# Altium footprint library driver.PcbLib: 31 footprints (part 1 of 2)
Each footprint in its own frame and in the unit in brackets; x right, y up, seen from the top. Pads: shape width x height; smd on the part's side, far side on the other; paste and mask are expansions set on the pad; w line width, h text height; cw(c..) or ccw(c..) is an arc to the next point about the centre after c.
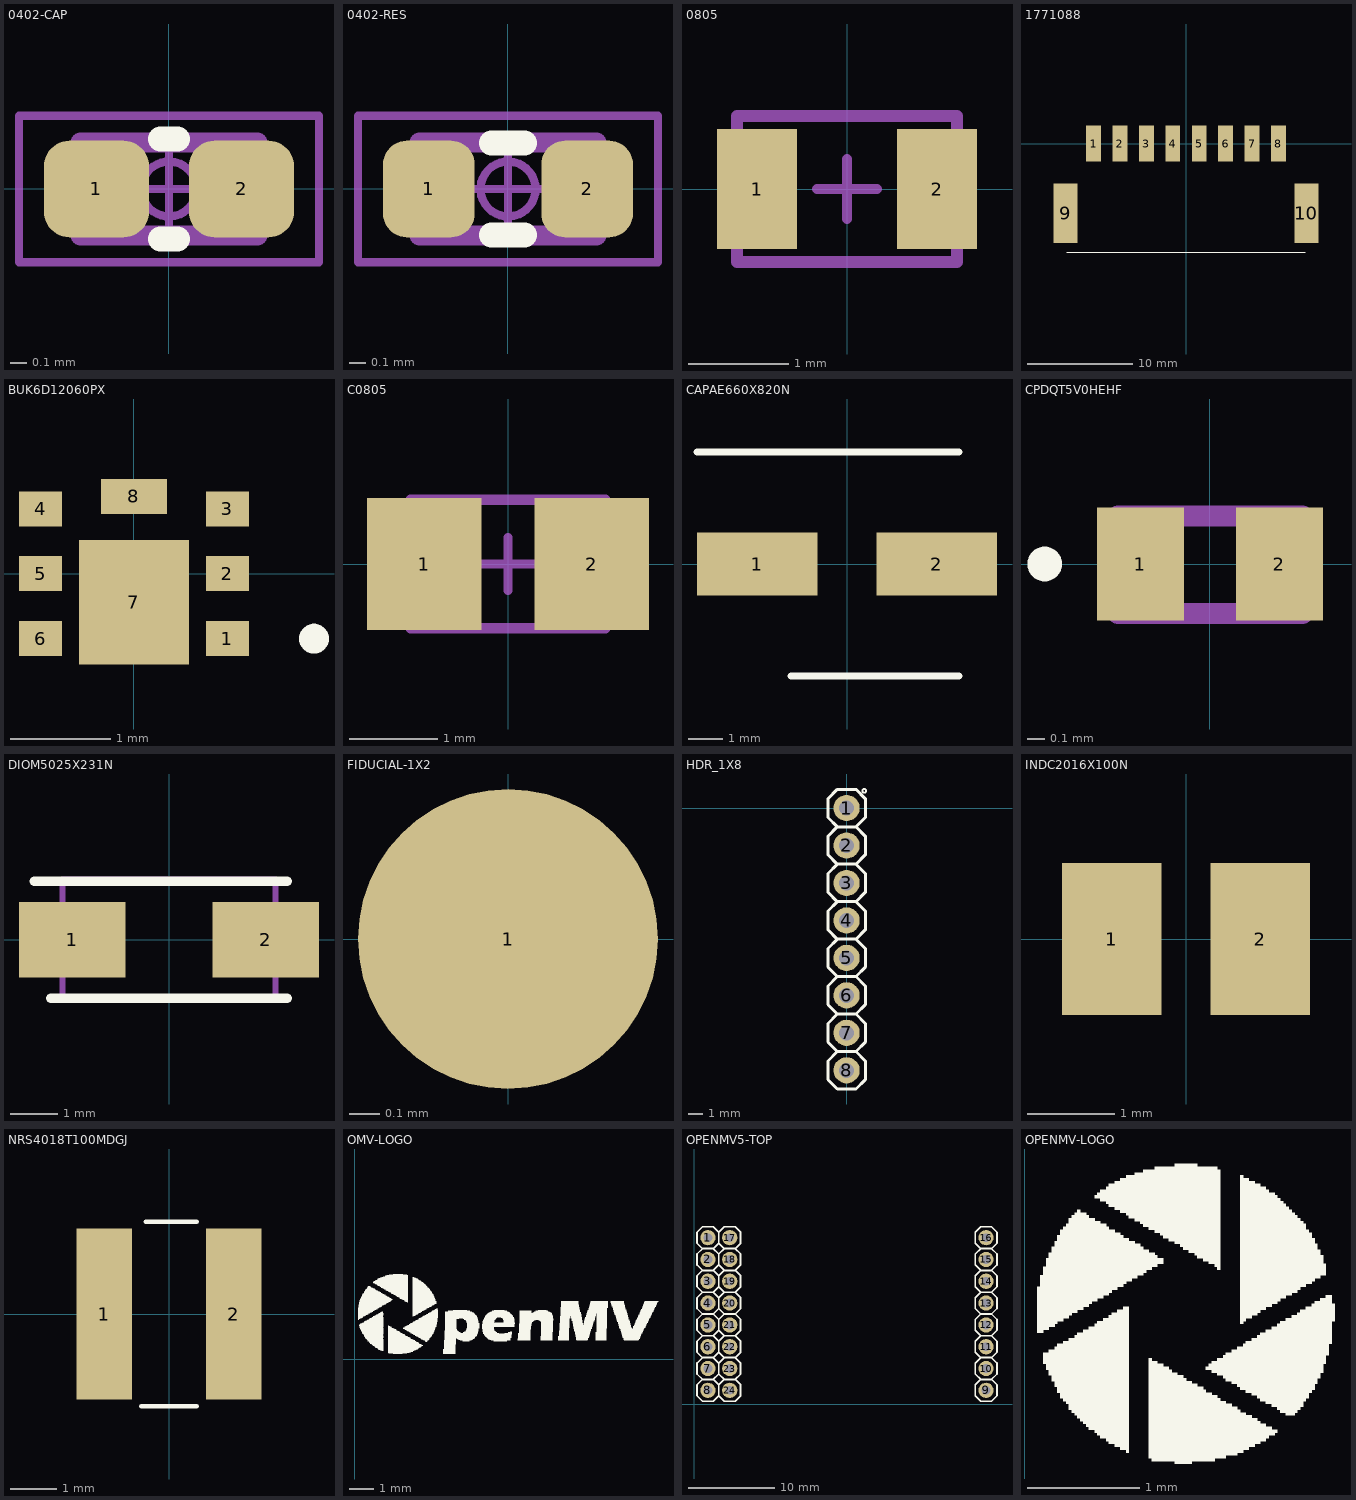
[diagram p0: the footprints below, top view; thin cyan lines are the x and y axes]

## 0402-CAP [mm] "Chip Capacitor, 2-Leads, Body  0402 (in) 1005 (mm), IPC Medium Density"
height 0.5
pads (2):
  rrect52% 0.63x0.58 smd mask+0.05: 1(-0.435,0) 2(0.435,0)
Top Overlay:
  lines w0.15: -0.05,-0.3 0.05,-0.3 ; -0.05,0.3 0.05,0.3
Mechanical 13:
  lines w0.12: -0.53,-0.28 -0.53,0.28 0.53,0.28 0.53,-0.28 -0.53,-0.28
  text ".designator" at -0.432,-0.178 h0.3
Mechanical 15:
  circle w0.05: c0,0 r0.165
  lines w0.05: -0.22,0 0.22,0 ; 0,-0.22 0,0.22 ; -0.9,-0.44 -0.9,0.44 0.9,0.44 0.9,-0.44 -0.9,-0.44
3D body "CAP-0402.stp": height 0.5, standoff 0, extent -0.5,-0.25 0.5,0.25

## 0402-RES [mm] "Chip Resistor, 2-Leads, Body  0402 (in) 1005 (mm), IPC Medium Density"
height 0.5
pads (2):
  rrect51% 0.55x0.58 smd mask+0.05: 1(-0.475,0) 2(0.475,0)
Top Overlay:
  lines w0.15: -0.1,-0.275 0.1,-0.275 ; -0.1,0.275 0.1,0.275
Mechanical 13:
  lines w0.12: -0.53,-0.28 -0.53,0.28 0.53,0.28 0.53,-0.28 -0.53,-0.28
  text ".designator" at -0.432,-0.152 h0.3
Mechanical 15:
  circle w0.05: c0,0 r0.165
  lines w0.05: -0.22,0 0.22,0 ; 0,-0.22 0,0.22 ; -0.9,-0.44 -0.9,0.44 0.9,0.44 0.9,-0.44 -0.9,-0.44
3D body "RES-0402.stp": height 0.34, standoff 0, extent -0.5,-0.25 0.5,0.25

## 0805 [mil] "0805"
pads (2):
  rect 31.5x47.24 smd: 1(-35.43,0) 2(35.43,0)
Mechanical 13:
  lines w3.94: -11.81,0 0,0 ; 0,-11.81 0,0 ; 0,11.81 0,0 ; 11.81,0 0,0
  lines w4.72: -43.31,-28.74 -43.31,28.74 43.31,28.74 43.31,-28.74 -43.31,-28.74
  text ".designator" at -39.36,-24.6 h11.81
3D body "CAP-0805.stp": height 49.21, standoff 0, extent -39.36,-24.6 39.38,24.61

## 1771088 [mm] "1771088"
pads (10):
  rect 1.4x3.4 smd: 1(-8.75,0) 2(-6.25,0) 3(-3.75,0) 4(-1.25,0) 5(1.25,0) 6(3.75,0) 7(6.25,0) 8(8.75,0)
  rect 2.3x5.6 smd: 9(-11.4,-6.6) 10(11.4,-6.6)
Top Overlay:
  lines w0.1: -11.3,-10.3 11.3,-10.3
3D body "1771088.stp": height 5.1, standoff -0.02, extent -12.2,-10.2 12.2,0.8

## BUK6D12060PX [mm] "BUK6D12060PX"
pads (8):
  rect 0.43x0.35 smd: 1(0.935,-0.65) 2(0.935,0) 3(0.935,0.65) 4(-0.935,0.65) 5(-0.935,0) 6(-0.935,-0.65)
  rect 1.1x1.25 smd: 7(0,-0.285)
  rect 0.66x0.35 smd: 8(0,0.775)
Top Overlay:
  lines w0.2: 1.8,-0.7 ccw(c1.8,-0.65) 1.8,-0.6 ; 1.8,-0.7 cw(c1.8,-0.65) 1.8,-0.6 ; 1.8,-0.7 ccw(c1.8,-0.65) 1.8,-0.6
3D body: height 0.65, standoff 0, extent -1,-1 1,1

## C0805 [mm] "C0805"
pads (2):
  rect 1.3x1.5 smd: 1(-0.95,0) 2(0.95,0)
Mechanical 13:
  lines w0.1: -0.3,0 0,0 ; 0,-0.3 0,0 ; 0,0.3 0,0 ; 0.3,0 0,0
  lines w0.12: -1.1,-0.73 -1.1,0.73 1.1,0.73 1.1,-0.73 -1.1,-0.73
  text ".designator" at -1,-0.625 h0.3
3D body "CAP-0805.stp": height 1.25, standoff 0, extent -1,-0.625 1,0.625

## CAPAE660X820N [mm] "CAPAE660X820N"
pads (2):
  rect 3.55x1.85 smd: 1(-2.65,0) 2(2.65,0)
Top Overlay:
  lines w0.2: -4.425,3.3 3.3,3.3 ; -1.65,-3.3 3.3,-3.3
3D body "CAP_MZR_F80_NIP.step": height 8.05, standoff 0, extent -3.696,-3.404 3.696,3.404

## CPDQT5V0HEHF [mm] "CPDQT5V0HEHF"
pads (2):
  rect 0.5x0.65 smd: 1(-0.4,0) 2(0.4,0)
Top Overlay:
  lines w0.1: -1,0 cw(c-0.95,0) -0.9,0 cw(c-0.95,0) -1,0
Mechanical 13:
  lines w0.12: -0.529,-0.284 -0.529,0.276 0.531,0.276 0.531,-0.284 -0.529,-0.284
  text ".designator" at -0.43,-0.157 h0.3
3D body "RES-0402.stp": height 0.34, standoff 0, extent -0.498,-0.254 0.502,0.246

## DIOM5025X231N [mm] "DIOM5025X231N"
pads (2):
  rect 2.25x1.6 smd: 1(-2.05,0) 2(2.05,0)
Top Overlay:
  lines w0.2: -2.85,1.242 2.502,1.242 ; -2.502,-1.242 2.502,-1.242
Mechanical 13:
  circle w0.127: c-1.745,0.08 r0.25
  lines w0.127: -2.25,-1.225 -2.25,1.275 2.25,1.275 2.25,-1.225 -2.25,-1.225
3D body: height 2, standoff 0, extent -2.25,-1.225 2.25,1.275

## FIDUCIAL-1X2 [mm] "FIDUCIAL-1X2"
pads (1):
  rrect100% 1x1 smd paste+0: 1(0,0)

## HDR_1X8 [mil]
pads (8):
  round 70 hole 40: 1(0,0) 2(0,-100) 3(0,-200) 4(0,-300) 5(0,-400) 6(0,-500) 7(0,-600) 8(0,-700)
Top Overlay:
  circle w5: c46.99,45.8 r5
  lines w8: -25,-650 -50,-625 -50,-575 -25,-550 ; -25,-650 -50,-675 -50,-725 -25,-750 25,-750 50,-725 50,-675 25,-650 ; -25,-650 25,-650 ; -25,-550 -50,-525 -50,-475 -25,-450 ; -25,-550 25,-550 ; -25,-450 -50,-425 -50,-375 -25,-350 ; -25,-450 25,-450 ; -25,-350 -50,-325 -50,-275 -25,-250 ; -25,-350 25,-350 ; -25,-250 -50,-225 -50,-175 -25,-150 ; -25,-250 25,-250 ; -25,-150 -50,-125 -50,-75 -25,-50 ; -25,-150 25,-150 ; -25,-50 -50,-25 -50,25 -25,50 25,50 50,25 50,-25 25,-50 ; -25,-50 25,-50 ; 25,-650 50,-625 50,-575 25,-550 ; 25,-550 50,-525 50,-475 25,-450 ; 25,-450 50,-425 50,-375 25,-350 ; 25,-350 50,-325 50,-275 25,-250 ; 25,-250 50,-225 50,-175 25,-150 ; 25,-150 50,-125 50,-75 25,-50
3D body "960240.STEP": height 334.65, standoff -412.98, extent -50,-750 50,50

## INDC2016X100N [mm] "INDC2016X100N"
pads (2):
  rect 1.14x1.73 smd: 1(-0.847,0) 2(0.847,0)
3D body: height 1, standoff 0, extent -1,-0.8 1,0.8

## NRS4018T100MDGJ [mm] "NRS4018T100MDGJ"
pads (2):
  rect 1.2x3.7 smd: 1(-1.4,0) 2(1.4,0)
Top Overlay:
  lines w0.1: -0.6,-2 0.6,-2 ; -0.5,2 0.6,2
3D body: height 1.8, standoff 0, extent -2,-2 2,2

## OMV-LOGO [mm] "OMV-LOGO"
Top Overlay:
  drawing of 881 lines, arcs and shapes, not listed

## OPENMV5-TOP [mil] "OPENMV5-TOP"
pads (24):
  round 70 hole 40: 1(62.99,762.99) 2(62.99,662.99) 3(62.99,562.99) 4(62.99,462.99) 5(62.99,362.99) 6(62.99,262.99) 7(62.99,162.99) 8(62.99,62.99) 9(1338.58,62.99) 10(1338.58,162.99) 11(1338.58,262.99) 12(1338.58,362.99) 13(1338.58,462.99) 14(1338.58,562.99) 15(1338.58,662.99) 16(1338.58,762.99) 17(162.99,762.99) 18(162.99,662.99) 19(162.99,562.99) 20(162.99,462.99) 21(162.99,362.99) 22(162.99,262.99) 23(162.99,162.99) 24(162.99,62.99)
Top Overlay:
  drawing of 163 lines, arcs and shapes, not listed

## OPENMV-LOGO [mm] "OPENMV-LOGO"
Top Overlay:
  drawing of 262 lines, arcs and shapes, not listed